# Altium schematic symbol library AP5056.SchLib: 1 symbol
Pins are listed as number, name and electrical type; pins without a type are passive.

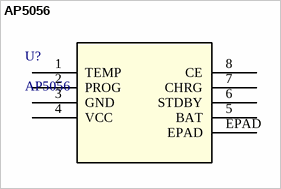
[diagram p0: symbol AP5056]

## AP5056
designator U?
No Description Available; Mfr_Name: Littelfuse Inc; RefDes: RefDes; Type: Type
footprint IXYS_SOIC-8-EP_IXY
pins: 1 TEMP, 2 PROG, 3 GND (power), 4 VCC (power), 5 BAT, 6 STDBY, 7 CHRG, 8 CE, EPAD